# Altium integrated library HR911105A.IntLib: 1 symbol
Pins are listed as number, name and electrical type; pins without a type are passive.

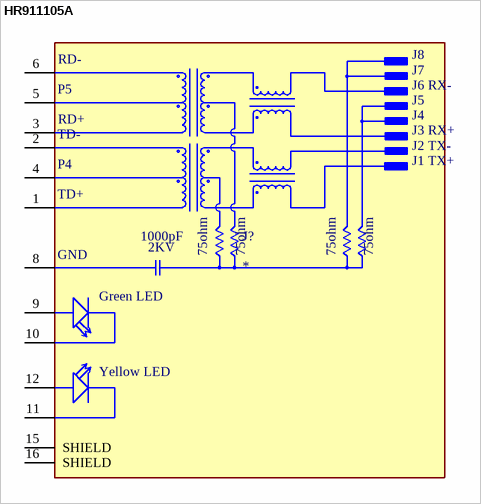
[diagram p0: symbol HR911105A]

## HR911105A
designator J?
DIP RJ45 Connector;; MP: HR911105A; MF: hanrun; SnapEDA_Link: https://www.snapeda.com/parts/HR911105A/HanRun/view-part/?ref=snap; Package: None; Check_prices: https://www.snapeda.com/parts/HR911105A/HanRun/view-part/?ref=eda; Price: None; Value: *; Availability: Not in stock
footprint HANRUN_HR911105A
pins: 1 TD+, 2 TD-, 3 RD+, 4 P4, 5 P5, 6 RD-, 8 GND (power), 9 GA, 10 GC, 11 YC, 12 YA, 15 SHIELD, 16 SHIELD
text: J8; J7; J6 RX-; J5; J4; J3 RX+; J2 TX-; J1 TX+; 1000pF; 2KV; 75ohm; Green LED; Yellow LED